# Altium integrated library Lattice ispGDX.IntLib: 49 symbols (part 6 of 6)
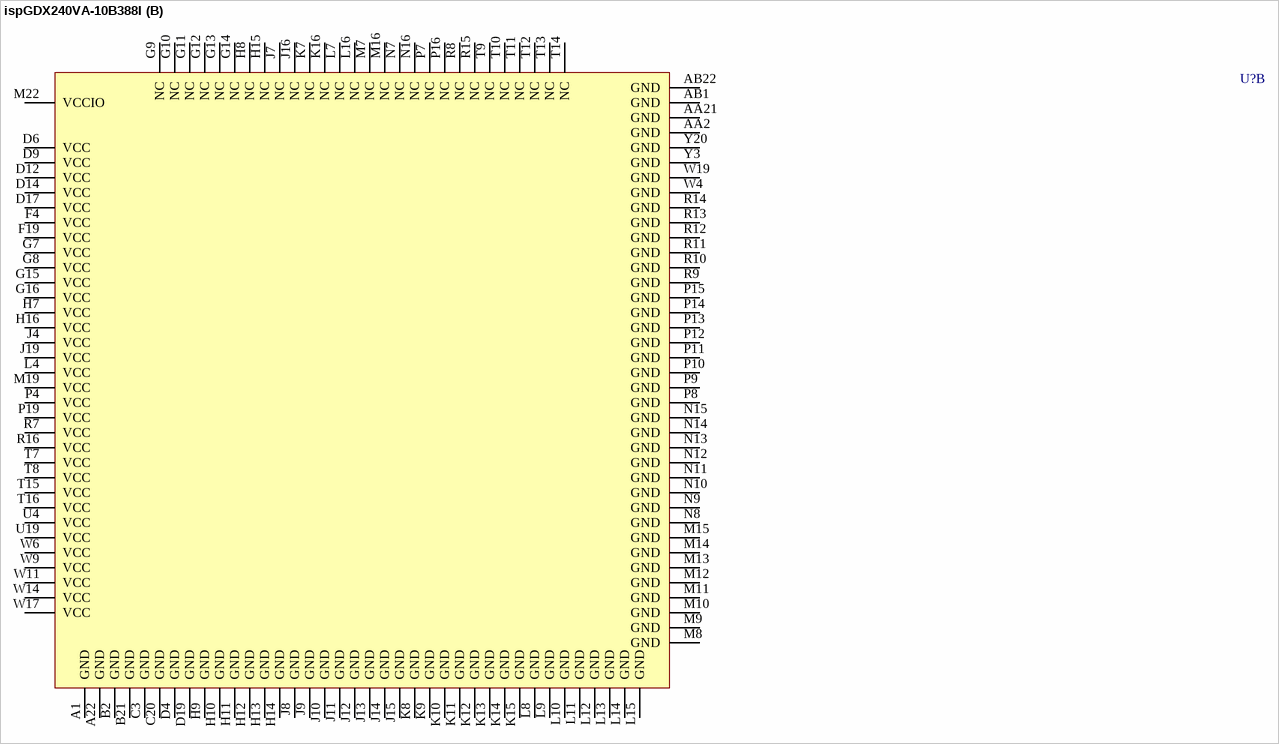
[diagram p49: symbol ispGDX240VA-10B388I]

## ispGDX240VA-10B388I
designator U?
In-System Programmable 3.3V Generic Digital Crosspoint; Note: NC pins are not to be connected to any active signals, VCC or GND.; Published: 17-Jul-2002; LatestRevisionDate: 13-Apr-2006; LatestRevisionNote: IPC-7351 Footprint Added.; DatasheetVersion: Jan-2001; PackageVersion: pkg_32, Aug-2005; PackageReference: fpBGA388; Publisher: Altium Limited; PackageDescription: 388-Ball Fine Pitch Ball Grid Array (fpBGA388); ComponentLink1Description: Manufacturer Link; ComponentLink1URL: http://www.latticesemi.com/products/digin/ispGDXV/index.cfm; ComponentLink2Description: Datasheet; ComponentLink2URL: http://www.latticesemi.com/account/_download.cfm?AMID=126; ComponentLink3Description: Lattice Login; ComponentLink3URL: http://www.latticesemi.com/account/login.cfm
footprint fpBGA388 (BGA, 388-Leads, Body 23x23mm, Pitch 1mm)
3D model 240VA-BGA388 (388-Ball Fine Pitch Ball Grid Array (fpBGA388))
part A pins: A2 A0/CLK/CLKEN (io), A3 D57/OE (io), A4 D55/MUXsel2 (io), A5 D50/MUXsel1 (io), A6 D47/MUXsel2 (io), A7 D43/MUXsel2 (io), A8 D40/CLK/CLKEN (io), A9 D36/CLK/CLKEN (io), A10 D33/OE (io), A11 EPEN (in), A12 D30/MUXsel1 (io), A13 D26/MUXsel1 (io), A14 D22/MUXsel1 (io), A15 D19/MUXsel2 (io), A16 D16/CLK/CLKEN (io), A17 D12/CLK/CLKEN (io), A18 D9/OE (io), A19 D4/CLK/CLKEN (io), A20 D2/MUXsel1 (io), A21 C59/MUXsel2 (io), AA1 A58/MUXsel1 (io), AA3 B0/CLK/CLKEN (io), AA4 B5/OE (io), AA5 B6/MUXsel1 (io), AA6 B11/MUXsel2 (io), AA7 B15/MUXsel2 (io), AA8 B18/MUXsel1 (io), AA9 B21/OE (io), AA10 B25/OE (io), AA11 B29/OE (io), AA12 B31/MUXsel2 (io), AA13 B34/MUXsel1 (io), AA14 B37/OE (io), AA15 B41/OE (io), AA16 B44/CLK/CLKEN (io), AA17 B48/CLK/CLKEN (io), AA18 B53/OE (io), AA19 B59/MUXsel2 (io), AA20 B56/CLK/CLKEN (io), AA22 C1/OE (io), AB2 A59/MUXsel2 (io), AB3 B2/MUXsel1 (io), AB4 B4/CLK/CLKEN (io), AB5 B9/OE (io), AB6 B12/CLK/CLKEN (io), AB7 B16/CLK/CLKEN (io), AB8 B19/MUXsel2 (io), AB9 B22/MUXsel1 (io), AB10 B26/MUXsel1 (io), AB11 B30/MUXsel1 (io), AB12 TDO (out), AB13 B33/OE (io), AB14 B36/CLK/CLKEN (io), AB15 B40/CLK/CLKEN (io), AB16 B43/MUXsel2 (io), AB17 B47/MUXsel2 (io), AB18 B50/MUXsel1 (io), AB19 B54/MUXsel1 (io), AB20 B57/OE (io), AB21 C0/CLK/CLKEN (io), B1 A1/OE (io), B3 D59/MUXsel2 (io), B4 D54/MUXsel1 (io), B5 D53/OE (io), B6 D48/CLK/CLKEN (io), B7 D44/CLK/CLKEN (io), B8 D41/OE (io), B9 D37/OE (io), B10 D34/MUXsel1 (io), B11 D31/MUXsel2 (io), B12 D29/OE (io), B13 D25/OE (io), B14 D21/OE (io), B15 D18/MUXsel1 (io), B16 D15/MUXsel2 (io), B17 D11/MUXsel2 (io), B18 D6/MUXsel1 (io), B19 D5/OE (io), B20 D0/CLK/CLKEN (io), B22 C58/MUXsel1 (io), C1 A4/CLK/CLKEN (io), C2 A2/MUXsel1 (io), C4 D56/CLK/CLKEN (io), C5 D52/CLK/CLKEN (io), C6 D49/OE (io), C7 D46/MUXsel1 (io), C8 D42/MUXsel1 (io), C9 D39/MUXsel2 (io), C10 D35/MUXsel2 (io), C11 D32/CLK/CLKEN (io), C12 D28/CLK/CLKEN (io), C13 D24/CLK/CLKEN (io), C14 D20/CLK/CLKEN (io), C15 D17/OE (io), C16 D13/OE (io), C17 D10/MUXsel1 (io), C18 D7/MUXsel2 (io), C19 D3/MUXsel2 (io), C21 C57/OE (io), C22 C55/MUXsel2 (io), D1 A6/MUXsel1 (io), D2 A5/OE (io), D3 A3/MUXsel2 (io), D5 D58/MUXsel1 (io), D7 D51/MUXsel2 (io), D8 D45/OE (io), D10 D38/MUXsel1 (io), D11 D27/MUXsel2 (io), D13 D23/MUXsel2 (io), D15 D14/MUXsel1 (io), D16 D8/CLK/CLKEN (io), D18 D1/OE (io), D20 C56/CLK/CLKEN (io), D21 C54/MUXsel1 (io), D22 C53/OE (io), E1 A10/MUXsel1 (io), E2 A9/OE (io), E3 A7/MUXsel2 (io), E4 A8/CLK/CLKEN (io), E19 C51/MUXsel2 (io), E20 C52/CLK/CLKEN (io), E21 C50/MUXsel1 (io), E22 C49/OE (io), F1 A13/OE (io), F2 A12/CLK/CLKEN (io), F3 A11/MUXsel2 (io), F20 C48/CLK/CLKEN (io), F21 C47/MUXsel2 (io), F22 C46/MUXsel1 (io), G1 A17/OE (io), G2 A16/CLK/CLKEN (io), G3 A14/MUXsel1 (io), G4 A15/MUXsel2 (io), G19 C44/CLK/CLKEN (io), G20 C45/OE (io), G21 C43/MUXsel2 (io), G22 C42/MUXsel1 (io), H1 A21/OE (io), H2 A20/CLK/CLKEN (io), H3 A18/MUXsel1 (io), H4 A19/MUXsel2 (io), H19 C40/CLK/CLKEN (io), H20 C41/OE (io), H21 C39/MUXsel2 (io), H22 C38/MUXsel1 (io), J1 A24/CLK/CLKEN (io), J2 A23/MUXsel2 (io), J3 A22/MUXsel1 (io), J20 C37/OE (io), J21 C36/CLK/CLKEN (io), J22 C35/MUXsel2 (io), K1 A28/CLK/CLKEN (io), K2 A26/MUXsel1 (io), K3 A25/OE (io), K4 A27/MUXsel2 (io), K19 C32/CLK/CLKEN (io), K20 C34/MUXsel1 (io), K21 C33/OE (io), K22 C31/MUXsel2 (io), L1 TCK (in), L2 TMS (in), L3 Y1/CLKEN1 (in), L19 C28/CLK/CLKEN (io), L20 C30/MUXsel1 (io), L21 ~{RST} (in), L22 TOE (in), M1 TDI (in), M2 A29/OE (io), M3 A30/MUXsel1 (io), M4 Y0/CLKEN0 (in), M20 Y2/CLKEN2 (in), M21 Y3/CLKEN3 (in), N1 A31/MUXsel2 (io), N2 A33/OE (io), N3 A34/MUXsel1 (io), N4 A32/CLK/CLKEN (io), N19 C27/MUXsel2 (io), N20 C25/OE (io), N21 C26/MUXsel1 (io), N22 C29/OE (io), P1 A35/MUXsel2 (io), P2 A36/CLK/CLKEN (io), P3 A37/OE (io), P20 C22/MUXsel1 (io), P21 C23/MUXsel2 (io), P22 C24/CLK/CLKEN (io), R1 A38/MUXsel1 (io), R2 A39/MUXsel2 (io), R3 A41/OE (io), R4 A40/CLK/CLKEN (io), R19 C19/MUXsel2 (io), R20 C18/MUXsel1 (io), R21 C20/CLK/CLKEN (io), R22 C21/OE (io), T1 A42/MUXsel1 (io), T2 A43/MUXsel2 (io), T3 A45/OE (io), T4 A44/CLK/CLKEN (io), T19 C15/MUXsel2 (io), T20 C14/MUXsel1 (io), T21 C16/CLK/CLKEN (io), T22 C17/OE (io), U1 A46/MUXsel1 (io), U2 A47/MUXsel2 (io), U3 A48/CLK/CLKEN (io), U20 C11/MUXsel2 (io), U21 C12/CLK/CLKEN (io), U22 C13/OE (io), V1 A49/OE (io), V2 A50/MUXsel1 (io), V3 A52/CLK/CLKEN (io), V4 A51/MUXsel2 (io), V19 C8/CLK/CLKEN (io), V20 C7/MUXsel2 (io), V21 C9/OE (io), V22 C10/MUXsel1 (io), W1 A53/OE (io), W2 A54/MUXsel1 (io), W3 A56/CLK/CLKEN (io), W5 B1/OE (io), W7 B8/CLK/CLKEN (io), W8 B14/MUXsel1 (io), W10 B23/MUXsel2 (io), W12 B27/MUXsel2 (io), W13 B38/MUXsel1 (io), W15 B45/OE (io), W16 B51/MUXsel2 (io), W18 B55/MUXsel2 (io), W20 C3/MUXsel2 (io), W21 C5/OE (io), W22 C6/MUXsel1 (io), Y1 A55/MUXsel2 (io), Y2 A57/OE (io), Y4 B3/MUXsel2 (io), Y5 B7/MUXsel2 (io), Y6 B10/MUXsel1 (io), Y7 B13/OE (io), Y8 B17/OE (io), Y9 B20/CLK/CLKEN (io), Y10 B24/CLK/CLKEN (io), Y11 B28/CLK/CLKEN (io), Y12 B32/CLK/CLKEN (io), Y13 B35/MUXsel2 (io), Y14 B39/MUXsel2 (io), Y15 B42/MUXsel1 (io), Y16 B46/MUXsel1 (io), Y17 B49/OE (io), Y18 B52/CLK/CLKEN (io), Y19 B58/MUXsel1 (io), Y21 C2/MUXsel1 (io), Y22 C4/CLK/CLKEN (io)
part B pins: A1 GND (power), A22 GND (power), AA2 GND (power), AA21 GND (power), AB1 GND (power), AB22 GND (power), B2 GND (power), B21 GND (power), C3 GND (power), C20 GND (power), D4 GND (power), D6 VCC (power), D9 VCC (power), D12 VCC (power), D14 VCC (power), D17 VCC (power), D19 GND (power), F4 VCC (power), F19 VCC (power), G7 VCC (power), G8 VCC (power), G9 NC, G10 NC, G11 NC, G12 NC, G13 NC, G14 NC, G15 VCC (power), G16 VCC (power), H7 VCC (power), H8 NC, H9 GND (power), H10 GND (power), H11 GND (power), H12 GND (power), H13 GND (power), H14 GND (power), H15 NC, H16 VCC (power), J4 VCC (power), J7 NC, J8 GND (power), J9 GND (power), J10 GND (power), J11 GND (power), J12 GND (power), J13 GND (power), J14 GND (power), J15 GND (power), J16 NC, J19 VCC (power), K7 NC, K8 GND (power), K9 GND (power), K10 GND (power), K11 GND (power), K12 GND (power), K13 GND (power), K14 GND (power), K15 GND (power), K16 NC, L4 VCC (power), L7 NC, L8 GND (power), L9 GND (power), L10 GND (power), L11 GND (power), L12 GND (power), L13 GND (power), L14 GND (power), L15 GND (power), L16 NC, M7 NC, M8 GND (power), M9 GND (power), M10 GND (power), M11 GND (power), M12 GND (power), M13 GND (power), M14 GND (power), M15 GND (power), M16 NC, M19 VCC (power), M22 VCCIO (power), N7 NC, N8 GND (power), N9 GND (power), N10 GND (power), N11 GND (power), N12 GND (power), N13 GND (power), N14 GND (power), N15 GND (power), N16 NC, P4 VCC (power), P7 NC, P8 GND (power), P9 GND (power), P10 GND (power), P11 GND (power), P12 GND (power), P13 GND (power), P14 GND (power), P15 GND (power), P16 NC, P19 VCC (power), R7 VCC (power), R8 NC, R9 GND (power), R10 GND (power), R11 GND (power), R12 GND (power), R13 GND (power), R14 GND (power), R15 NC, R16 VCC (power), T7 VCC (power), T8 VCC (power), T9 NC, T10 NC, T11 NC, T12 NC, T13 NC, T14 NC, T15 VCC (power), T16 VCC (power), U4 VCC (power), U19 VCC (power), W4 GND (power), W6 VCC (power), W9 VCC (power), W11 VCC (power), W14 VCC (power), W17 VCC (power), W19 GND (power), Y3 GND (power), Y20 GND (power)